# EAGLE library part DIP-14 (library 14_Pin_DIP)
14 Pin DIP Generic 14 pin DIP package chip
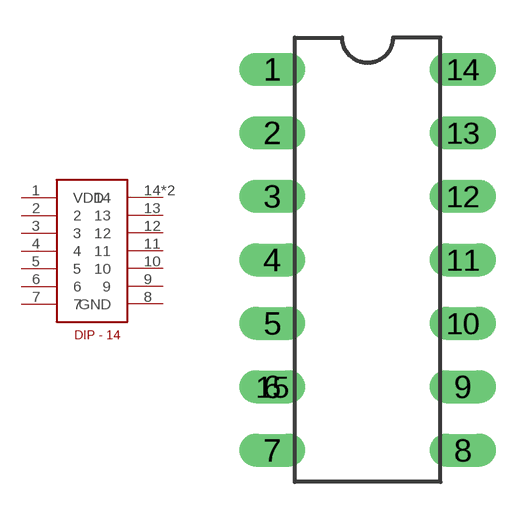
[diagram p0: symbol with the pads of DIP-14; footprint DIP-14]

Designator prefix -

## DIP-14  [DIP-14]
1  VDD
2  2
3  3
4  4
5  5
6  6
7  7
8  GND
9  9
10  10
11  11
12  12
13  13
14  14
15  14

## Footprint DIP-14 (pad centres in mm)
14 pin DIP package
drill 0.813 long: 1 -3.81,7.62; 2 -3.81,5.08; 3 -3.81,2.54; 4 -3.81,0; 5 -3.81,-2.54; 6 -3.81,-5.08; 7 -3.81,-7.62; 8 3.81,-7.62; 9 3.81,-5.08; 10 3.81,-2.54; 11 3.81,0; 12 3.81,2.54; 13 3.81,5.08; 14 3.81,7.62; 15 -3.81,-5.08